# Altium footprint library USB_A_dual.PcbLib: 1 footprints
Each footprint in its own frame and in the unit in brackets; x right, y up, seen from the top. Pads: shape width x height; smd on the part's side, far side on the other; paste and mask are expansions set on the pad; w line width, h text height; cw(c..) or ccw(c..) is an arc to the next point about the centre after c.
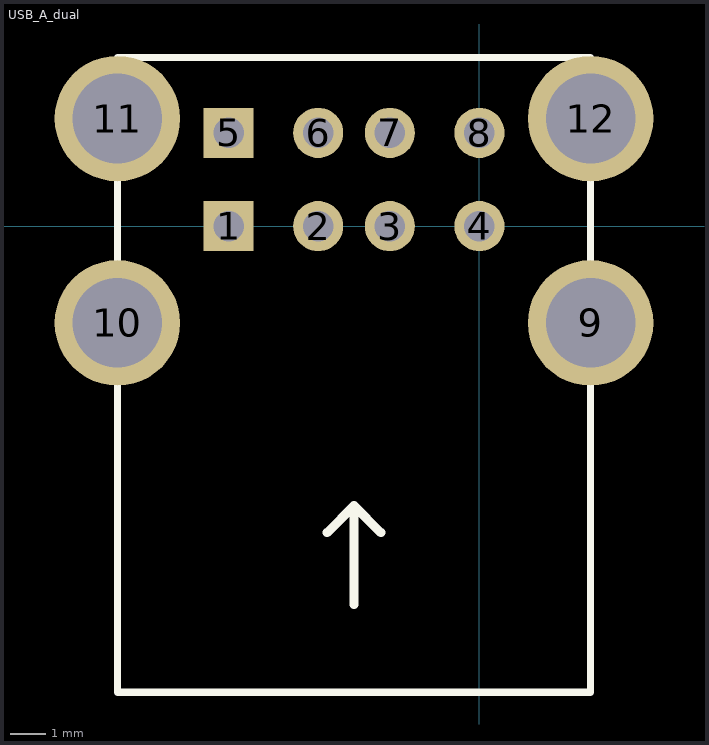
[diagram p0: the footprint, top view; thin cyan lines are the x and y axes]

## USB_A_dual [mm]
height 10
pads (12):
  rect 1.4x1.4 hole 0.85: 1(-7,0) 5(-7,2.6)
  round 1.4 hole 0.85: 2(-4.5,0) 3(-2.5,0) 4(0,0) 6(-4.5,2.6) 7(-2.5,2.6) 8(0,2.6)
  round 3.5 hole 2.5: 9(3.1,-2.7) 10(-10.1,-2.7) 11(-10.1,3) 12(3.1,3)
Top Overlay:
  lines w0.2: -10.1,-13 -10.1,4.7 3.1,4.7 3.1,-13 -10.1,-13
  lines w0.254: -4.25,-8.55 -3.5,-7.8 ; -3.5,-10.55 -3.5,-7.8 ; -2.75,-8.55 -3.5,-7.8